# EAGLE library part FE2.1 (library MTS-OTR_Custom)
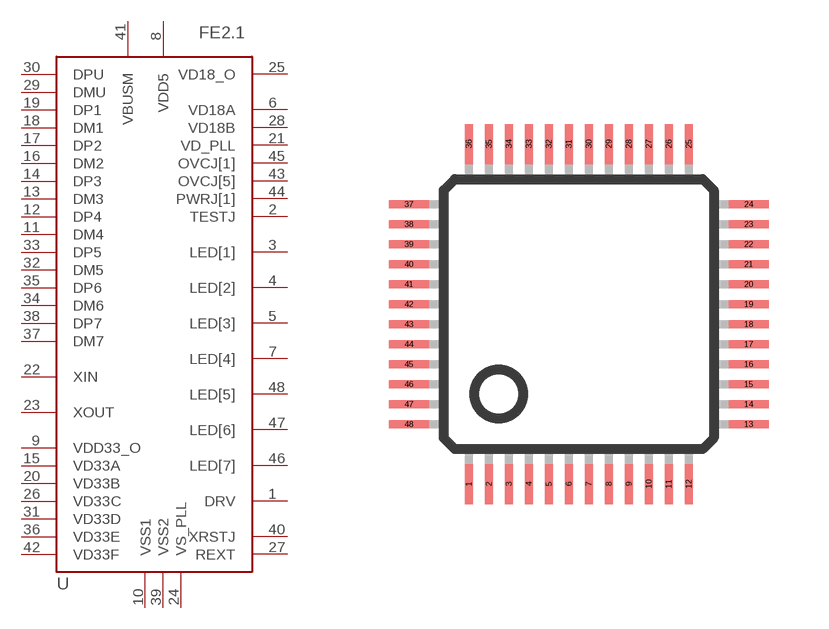
[diagram p21: symbol with the pads of LQFP48; footprint LQFP48]

Designator prefix -

## FE2.1  [LQFP48]
1  DRV
2  TESTJ
3  LED[1]
4  LED[2]
5  LED[3]
6  VD18A
7  LED[4]
8  VDD5
9  VDD33_O
10  VSS1
11  DM4
12  DP4
13  DM3
14  DP3
15  VD33A
16  DM2
17  DP2
18  DM1
19  DP1
20  VD33B
21  VD_PLL
22  XIN
23  XOUT
24  VS_PLL
25  VD18_O
26  VD33C
27  REXT
28  VD18B
29  DMU
30  DPU
31  VD33D
32  DM5
33  DP5
34  DM6
35  DP6
36  VD33E
37  DM7
38  DP7
39  VSS2
40  XRSTJ
41  VBUSM
42  VD33F
43  OVCJ[5]
44  PWRJ[1]
45  OVCJ[1]
46  LED[7]
47  LED[6]
48  LED[5]

## Footprint LQFP48 (pad centres in mm)
48-pin plastic LQFP (FPT-48P-M26) www.fma.fujitsu.com/pdf/e713717.pdf
smd 0.2 x 1: 1 -2.75,-4.25; 2 -2.25,-4.25; 3 -1.75,-4.25; 4 -1.25,-4.25; 5 -0.75,-4.25; 6 -0.25,-4.25; 7 0.25,-4.25; 8 0.75,-4.25; 9 1.25,-4.25; 10 1.75,-4.25; 11 2.25,-4.25; 12 2.75,-4.25; 25 2.75,4.25; 26 2.25,4.25; 27 1.75,4.25; 28 1.25,4.25; 29 0.75,4.25; 30 0.25,4.25; 31 -0.25,4.25; 32 -0.75,4.25; 33 -1.25,4.25; 34 -1.75,4.25; 35 -2.25,4.25; 36 -2.75,4.25
smd 1 x 0.2: 13 4.25,-2.75; 14 4.25,-2.25; 15 4.25,-1.75; 16 4.25,-1.25; 17 4.25,-0.75; 18 4.25,-0.25; 19 4.25,0.25; 20 4.25,0.75; 21 4.25,1.25; 22 4.25,1.75; 23 4.25,2.25; 24 4.25,2.75; 37 -4.25,2.75; 38 -4.25,2.25; 39 -4.25,1.75; 40 -4.25,1.25; 41 -4.25,0.75; 42 -4.25,0.25; 43 -4.25,-0.25; 44 -4.25,-0.75; 45 -4.25,-1.25; 46 -4.25,-1.75; 47 -4.25,-2.25; 48 -4.25,-2.75